# Altium schematic symbol library Wurth_Elektronik_Electromechanic_Wire_to_Board_Connectors_rev16a.SCHLIB: 662 symbols (part 10 of 10)
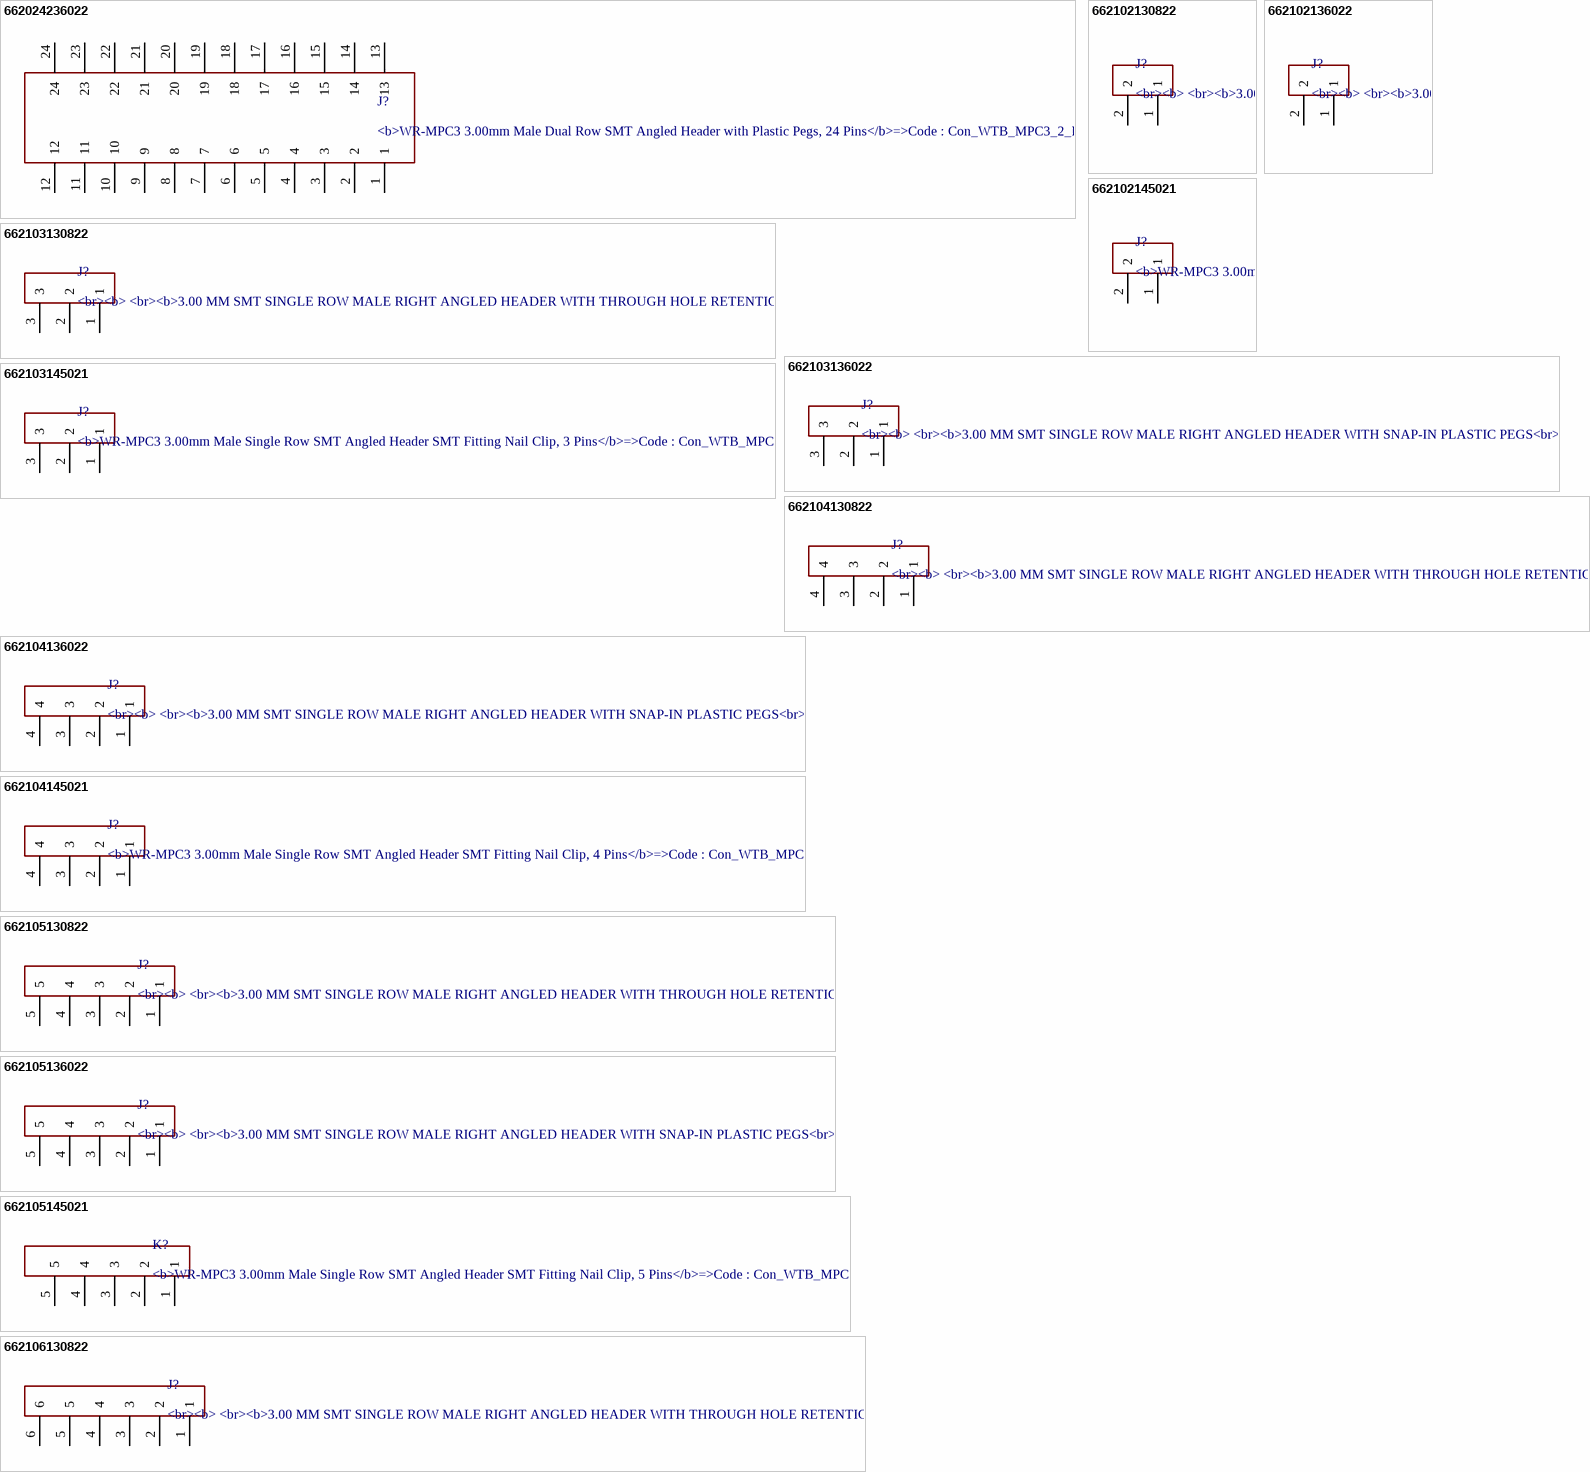
[diagram p71: symbols 662024236022 to 662106130822]

## 662105145021
designator K?, comment <b>WR-MPC3 3.00mm Male Single Row SMT Angled Header SMT Fitting Nail Clip, 5 Pins</b>=>Code : Con_WTB_MPC3_1_PCB_662105145021 / <br><a href="http://katalog.we-online.de/media/thumbs2/eican/thb_Con_WTB_MPC3_1_PCB_6621xx145021_pf2.jpg" title="Enlarge picture"> / <img src="http://katalog.we-online.de/media/thumbs2/eican/thb_Con_WTB_MPC3_1_PCB_6621xx145021_pf2.jpg"  width="320"></a><p> / Details see: <a href="http://katalog.we-online.de/en/em/662_1xx_145_021">http://katalog.we-online.de/en/em/662_1xx_145_021</a><p> / Created 2014-06-06, Karrer Zheng<br> / 2014 (C) Würth Elektronik
footprint 662105145021
pins: 1, 2, 3, 4, 5

## 662106130822
designator J?, comment <br><b> <br><b>3.00 MM SMT SINGLE ROW MALE RIGHT ANGLED HEADER WITH THROUGH HOLE RETENTION CLIPS<br><br></b></b>=>ConMPC3 662106130822 / <br> / <br> / <br><b> Characteristics / <br><br></b></b>INSULATOR: LCP / <br>FLAMABILITY RATING: UL94-V0 / <br>COLOR: BLACK / <br>CONTACT MATERIAL: COPPER ALLOY / <br>CONTACT TYPE: STAMPED / <br>CONTACT PLATING: TIN / <br>QUALITY CLASS: 25 MATING CYCLES / <br>OPERATING TEMPERATURE:-40°C UP TO +105°C / <br>COMPLIANCE: LEAD FREE AND ROHS / <br> / <br> / <br> / <br><b> ELECTRICAL / <br><br></b></b>CURRENT RATING: 5A / <br>WORKING VOLTAGE: 250 VAC / <br>INSULATOR RESISTANCE: >1000 MOHM / <br>DIELECTRIC WITHSTANDING VOLTAGE: 1500 VAC/MN / <br>CONTACT RESISTANCE: 10 mOHM MAX / <br> / <br> / <br><a href="http://katalog.we-online.de/media/images/v2/Family_WRMPC3-6621xx130822_SW.jpg" title="Enlarge picture"> / <img src="http://katalog.we-online.de/media/images/v2/Family_WRMPC3-6621xx130822_SW.jpg"  width="320"></a><p> / Details see: <a href="http://katalog.we-online.de/en/em/MPC3_3_00_SMT_MALE_SINGLE_ROW_ANGLED_HEADER_W_THT_RETENTION_CLIP_6621XX130822/662102130822">http://katalog.we-online.de/en/em/MPC3_3_00_SMT_MALE_SINGLE_ROW_ANGLED_HEADER_W_THT_RETENTION_CLIP_6621XX130822/662102130822?</a><p> / <br></b>2015 (C) Wurth Elektronik
footprint 662106130822
pins: 1, 2, 3, 4, 5, 6

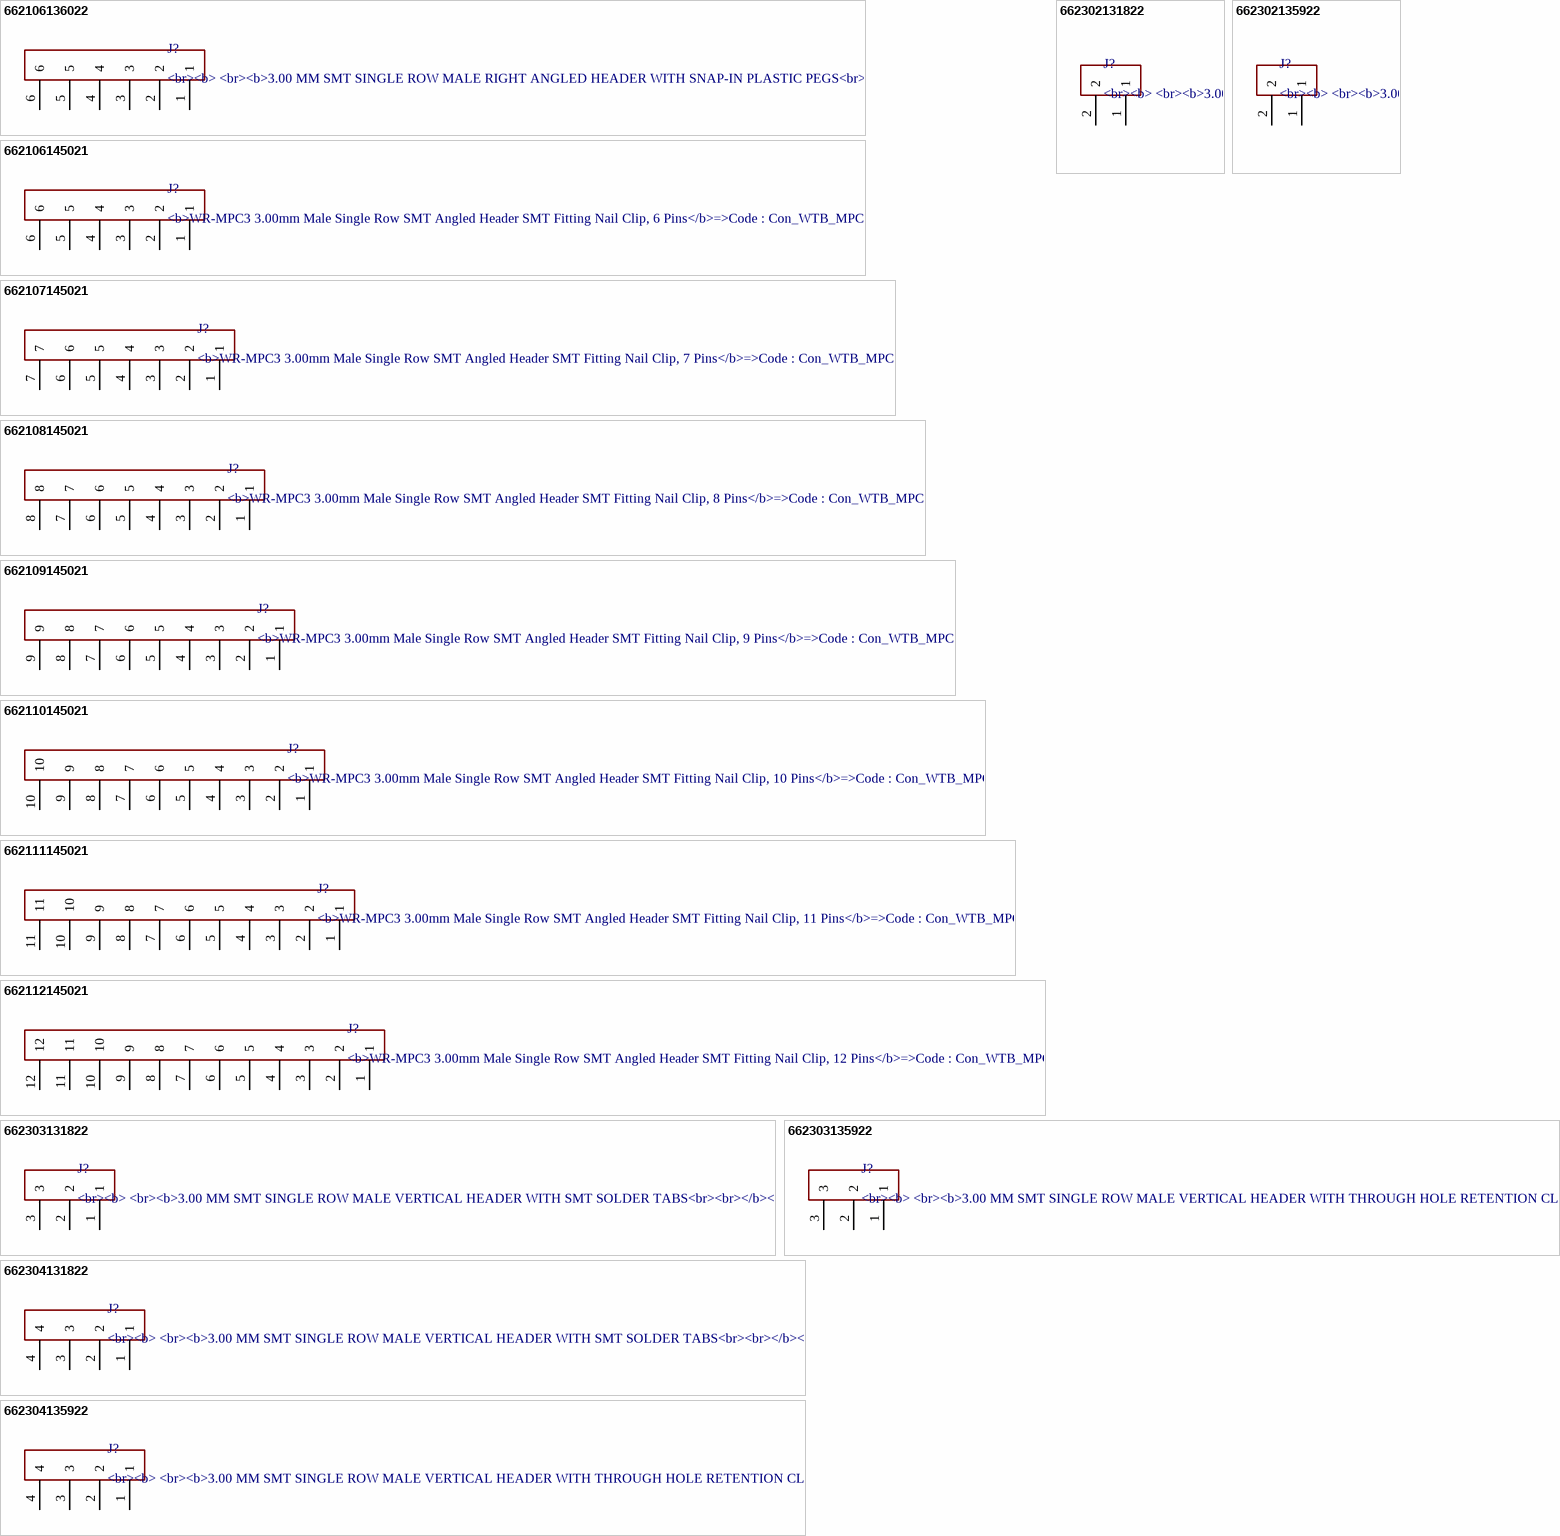
[diagram p59: symbols 662106136022 to 662304135922]

## 662106136022
designator J?, comment <br><b> <br><b>3.00 MM SMT SINGLE ROW MALE RIGHT ANGLED HEADER WITH SNAP-IN PLASTIC PEGS<br><br></b></b>=>ConMPC3 662106136022 / <br> / <br> / <br><b> Characteristics / <br><br></b></b>INSULATOR: LCP / <br>FLAMABILITY RATING: UL94-V0 / <br>COLOR: BLACK / <br>CONTACT MATERIAL: COPPER ALLOY / <br>CONTACT TYPE: STAMPED / <br>CONTACT PLATING: TIN / <br>QUALITY CLASS:25 MATING CYCLES / <br>OPERATING TEMPERATURE:-40°C UP TO +105°C / <br>COMPLIANCE: LEAD FREE AND ROHS / <br> / <br> / <br> / <br><b> ELECTRICAL / <br><br></b></b>CURRENT RATING: 5A / <br>WORKING VOLTAGE: 250 VAC / <br>INSULATOR RESISTANCE: >1000 MOHM / <br>DIELECTRIC WITHSTANDING VOLTAGE: 1500 VAC/MN / <br>CONTACT RESISTANCE: 10 mOHM MAX / <br> / <br> / <br><a href="http://katalog.we-online.de/media/images/v2/Family_WR-MPC3-6621xx136022_SW.jpg" title="Enlarge picture"> / <img src="http://katalog.we-online.de/media/images/v2/Family_WR-MPC3-6621xx136022_SW.jpg"  width="320"></a><p> / Details see: <a href="http://katalog.we-online.de/en/em/MPC3_3_00_SMT_MALE_RIGHT_ANGLED_W_PLASTIC_PEGS_6621XX136022">http://katalog.we-online.de/en/em/MPC3_3_00_SMT_MALE_RIGHT_ANGLED_W_PLASTIC_PEGS_6621XX136022</a><p> / <br></b>2015 (C) Wurth Elektronik
footprint 662106136022
pins: 1, 2, 3, 4, 5, 6

## 662106145021
designator J?, comment <b>WR-MPC3 3.00mm Male Single Row SMT Angled Header SMT Fitting Nail Clip, 6 Pins</b>=>Code : Con_WTB_MPC3_1_PCB_662106145021 / <br><a href="http://katalog.we-online.de/media/thumbs2/eican/thb_Con_WTB_MPC3_1_PCB_6621xx145021_pf2.jpg" title="Enlarge picture"> / <img src="http://katalog.we-online.de/media/thumbs2/eican/thb_Con_WTB_MPC3_1_PCB_6621xx145021_pf2.jpg"  width="320"></a><p> / Details see: <a href="http://katalog.we-online.de/en/em/662_1xx_145_021">http://katalog.we-online.de/en/em/662_1xx_145_021</a><p> / Created 2014-06-06, Karrer Zheng<br> / 2014 (C) Würth Elektronik
footprint 662106145021
pins: 1, 2, 3, 4, 5, 6

## 662107145021
designator J?, comment <b>WR-MPC3 3.00mm Male Single Row SMT Angled Header SMT Fitting Nail Clip, 7 Pins</b>=>Code : Con_WTB_MPC3_1_PCB_662107145021 / <br><a href="http://katalog.we-online.de/media/thumbs2/eican/thb_Con_WTB_MPC3_1_PCB_6621xx145021_pf2.jpg" title="Enlarge picture"> / <img src="http://katalog.we-online.de/media/thumbs2/eican/thb_Con_WTB_MPC3_1_PCB_6621xx145021_pf2.jpg"  width="320"></a><p> / Details see: <a href="http://katalog.we-online.de/en/em/662_1xx_145_021">http://katalog.we-online.de/en/em/662_1xx_145_021</a><p> / Created 2014-06-06, Karrer Zheng<br> / 2014 (C) Würth Elektronik
footprint 662107145021
pins: 1, 2, 3, 4, 5, 6, 7

## 662108145021
designator J?, comment <b>WR-MPC3 3.00mm Male Single Row SMT Angled Header SMT Fitting Nail Clip, 8 Pins</b>=>Code : Con_WTB_MPC3_1_PCB_662108145021 / <br><a href="http://katalog.we-online.de/media/thumbs2/eican/thb_Con_WTB_MPC3_1_PCB_6621xx145021_pf2.jpg" title="Enlarge picture"> / <img src="http://katalog.we-online.de/media/thumbs2/eican/thb_Con_WTB_MPC3_1_PCB_6621xx145021_pf2.jpg"  width="320"></a><p> / Details see: <a href="http://katalog.we-online.de/en/em/662_1xx_145_021">http://katalog.we-online.de/en/em/662_1xx_145_021</a><p> / Created 2014-06-06, Karrer Zheng<br> / 2014 (C) Würth Elektronik
footprint 662108145021
pins: 1, 2, 3, 4, 5, 6, 7, 8

## 662109145021
designator J?, comment <b>WR-MPC3 3.00mm Male Single Row SMT Angled Header SMT Fitting Nail Clip, 9 Pins</b>=>Code : Con_WTB_MPC3_1_PCB_662109145021 / <br><a href="http://katalog.we-online.de/media/thumbs2/eican/thb_Con_WTB_MPC3_1_PCB_6621xx145021_pf2.jpg" title="Enlarge picture"> / <img src="http://katalog.we-online.de/media/thumbs2/eican/thb_Con_WTB_MPC3_1_PCB_6621xx145021_pf2.jpg"  width="320"></a><p> / Details see: <a href="http://katalog.we-online.de/en/em/662_1xx_145_021">http://katalog.we-online.de/en/em/662_1xx_145_021</a><p> / Created 2014-06-06, Karrer Zheng<br> / 2014 (C) Würth Elektronik
footprint 662109145021
pins: 1, 2, 3, 4, 5, 6, 7, 8, 9

## 662110145021
designator J?, comment <b>WR-MPC3 3.00mm Male Single Row SMT Angled Header SMT Fitting Nail Clip, 10 Pins</b>=>Code : Con_WTB_MPC3_1_PCB_662110145021 / <br><a href="http://katalog.we-online.de/media/thumbs2/eican/thb_Con_WTB_MPC3_1_PCB_6621xx145021_pf2.jpg" title="Enlarge picture"> / <img src="http://katalog.we-online.de/media/thumbs2/eican/thb_Con_WTB_MPC3_1_PCB_6621xx145021_pf2.jpg"  width="320"></a><p> / Details see: <a href="http://katalog.we-online.de/en/em/662_1xx_145_021">http://katalog.we-online.de/en/em/662_1xx_145_021</a><p> / Created 2014-06-06, Karrer Zheng<br> / 2014 (C) Würth Elektronik
footprint 662110145021
pins: 1, 2, 3, 4, 5, 6, 7, 8, 9, 10

## 662111145021
designator J?, comment <b>WR-MPC3 3.00mm Male Single Row SMT Angled Header SMT Fitting Nail Clip, 11 Pins</b>=>Code : Con_WTB_MPC3_1_PCB_662112145021 / <br><a href="http://katalog.we-online.de/media/thumbs2/eican/thb_Con_WTB_MPC3_1_PCB_6621xx145021_pf2.jpg" title="Enlarge picture"> / <img src="http://katalog.we-online.de/media/thumbs2/eican/thb_Con_WTB_MPC3_1_PCB_6621xx145021_pf2.jpg"  width="320"></a><p> / Details see: <a href="http://katalog.we-online.de/en/em/662_1xx_145_021">http://katalog.we-online.de/en/em/662_1xx_145_021</a><p> / Created 2014-06-06, Karrer Zheng<br> / 2014 (C) Würth Elektronik
footprint 662111145021
pins: 1, 2, 3, 4, 5, 6, 7, 8, 9, 10, 11

## 662112145021
designator J?, comment <b>WR-MPC3 3.00mm Male Single Row SMT Angled Header SMT Fitting Nail Clip, 12 Pins</b>=>Code : Con_WTB_MPC3_1_PCB_662112145021 / <br><a href="http://katalog.we-online.de/media/thumbs2/eican/thb_Con_WTB_MPC3_1_PCB_6621xx145021_pf2.jpg" title="Enlarge picture"> / <img src="http://katalog.we-online.de/media/thumbs2/eican/thb_Con_WTB_MPC3_1_PCB_6621xx145021_pf2.jpg"  width="320"></a><p> / Details see: <a href="http://katalog.we-online.de/en/em/662_1xx_145_021">http://katalog.we-online.de/en/em/662_1xx_145_021</a><p> / Created 2014-06-06, Karrer Zheng<br> / 2014 (C) Würth Elektronik
footprint 662112145021
pins: 1, 2, 3, 4, 5, 6, 7, 8, 9, 10, 11, 12

## 662302131822
designator J?, comment <br><b> <br><b>3.00 MM SMT SINGLE ROW MALE VERTICAL HEADER WITH SMT SOLDER TABS<br><br></b></b>=>ConMPC3 662302131822 / <br> / <br> / <br><b> Characteristics / <br><br></b></b>INSULATOR: LCP / <br>FLAMABILITY RATING: UL94-V0 / <br>COLOR: BLACK / <br>CONTACT MATERIAL: COPPER ALLOY / <br>CONTACT TYPE: STAMPED / <br>CONTACT PLATING: TIN / <br>QUALITY CLASS:25 MATING CYCLES / <br>OPERATING TEMPERATURE:-40°C UP TO +105°C / <br>COMPLIANCE: LEAD FREE AND ROHS / <br> / <br> / <br> / <br><b> ELECTRICAL / <br><br></b></b>CURRENT RATING: 5A / <br>WORKING VOLTAGE: 250 VAC / <br>INSULATOR RESISTANCE: >1000 MOHM / <br>DIELECTRIC WITHSTANDING VOLTAGE: 1500 VAC/MN / <br>CONTACT RESISTANCE: 10 mOHM MAX / <br> / <br> / <br><a href="http://katalog.we-online.de/media/images/v2/Family_WR-MPC3-6623xx131822_SW.jpg" title="Enlarge picture"> / <img src="http://katalog.we-online.de/media/images/v2/Family_WR-MPC3-6623xx131822_SW.jpg"  width="320"></a><p> / Details see: <a href="http://katalog.we-online.de/en/em/MPC3_3_00_SMT_MALE_SINGLE_ROW_VERTICAL_W_SMT_SOLDER_TAB_6623XX131822/662302131822">http://katalog.we-online.de/en/em/MPC3_3_00_SMT_MALE_SINGLE_ROW_VERTICAL_W_SMT_SOLDER_TAB_6623XX131822/662302131822</a><p> / <br></b>2015 (C) Wurth Elektronik
footprint 662302131822
pins: 1, 2

## 662302135922
designator J?, comment <br><b> <br><b>3.00 MM SMT SINGLE ROW MALE VERTICAL HEADER WITH THROUGH HOLE RETENTION CLIPS<br><br></b></b>=>ConMPC3 662302135922 / <br> / <br> / <br><b> Characteristics / <br><br></b></b>INSULATOR: LCP / <br>FLAMABILITY RATING: UL94-V0 / <br>COLOR: BLACK / <br>CONTACT MATERIAL: COPPER ALLOY / <br>CONTACT TYPE: STAMPED / <br>CONTACT PLATING: TIN / <br>QUALITY CLASS:25 MATING CYCLES / <br>OPERATING TEMPERATURE:-40°C UP TO +105°C / <br>COMPLIANCE: LEAD FREE AND ROHS / <br> / <br> / <br> / <br><b> ELECTRICAL / <br><br></b></b>CURRENT RATING: 5A / <br>WORKING VOLTAGE: 250 VAC / <br>INSULATOR RESISTANCE: >1000 MOHM / <br>DIELECTRIC WITHSTANDING VOLTAGE: 1500 VAC/MN / <br>CONTACT RESISTANCE: 10 mOHM MAX / <br> / <br> / <br><a href="http://katalog.we-online.de/media/images/v2/Family_WR-MPC3-6623xx135922_SW.jpg" title="Enlarge picture"> / <img src="http://katalog.we-online.de/media/images/v2/Family_WR-MPC3-6623xx135922_SW.jpg"  width="320"></a><p> / Details see: <a href="http://katalog.we-online.de/en/em/MPC3_3_00_SMT_MALE_SINGLE_ROW_VERTICAL_W_THT_RETENTION_CLIP_6623XX135922">http://katalog.we-online.de/en/em/MPC3_3_00_SMT_MALE_SINGLE_ROW_VERTICAL_W_THT_RETENTION_CLIP_6623XX135922</a><p> / <br></b>2015 (C) Wurth Elektronik
footprint 662302135922
pins: 1, 2

## 662303131822
designator J?, comment <br><b> <br><b>3.00 MM SMT SINGLE ROW MALE VERTICAL HEADER WITH SMT SOLDER TABS<br><br></b></b>=>ConMPC3 662303131822 / <br> / <br> / <br><b> Characteristics / <br><br></b></b>INSULATOR: LCP / <br>FLAMABILITY RATING: UL94-V0 / <br>COLOR: BLACK / <br>CONTACT MATERIAL: COPPER ALLOY / <br>CONTACT TYPE: STAMPED / <br>CONTACT PLATING: TIN / <br>QUALITY CLASS:25 MATING CYCLES / <br>OPERATING TEMPERATURE:-40°C UP TO +105°C / <br>COMPLIANCE: LEAD FREE AND ROHS / <br> / <br> / <br> / <br><b> ELECTRICAL / <br><br></b></b>CURRENT RATING: 5A / <br>WORKING VOLTAGE: 250 VAC / <br>INSULATOR RESISTANCE: >1000 MOHM / <br>DIELECTRIC WITHSTANDING VOLTAGE: 1500 VAC/MN / <br>CONTACT RESISTANCE: 10 mOHM MAX / <br> / <br> / <br><a href="http://katalog.we-online.de/media/images/v2/Family_WR-MPC3-6623xx131822_SW.jpg" title="Enlarge picture"> / <img src="http://katalog.we-online.de/media/images/v2/Family_WR-MPC3-6623xx131822_SW.jpg"  width="320"></a><p> / Details see: <a href="http://katalog.we-online.de/en/em/MPC3_3_00_SMT_MALE_SINGLE_ROW_VERTICAL_W_SMT_SOLDER_TAB_6623XX131822">http://katalog.we-online.de/en/em/MPC3_3_00_SMT_MALE_SINGLE_ROW_VERTICAL_W_SMT_SOLDER_TAB_6623XX131822</a><p> / <br></b>2015 (C) Wurth Elektronik
footprint 662303131822
pins: 1, 2, 3

## 662303135922
designator J?, comment <br><b> <br><b>3.00 MM SMT SINGLE ROW MALE VERTICAL HEADER WITH THROUGH HOLE RETENTION CLIPS<br><br></b></b>=>ConMPC3 662303135922 / <br> / <br> / <br><b> Characteristics / <br><br></b></b>INSULATOR: LCP / <br>FLAMABILITY RATING: UL94-V0 / <br>COLOR: BLACK / <br>CONTACT MATERIAL: COPPER ALLOY / <br>CONTACT TYPE: STAMPED / <br>CONTACT PLATING: TIN / <br>QUALITY CLASS:25 MATING CYCLES / <br>OPERATING TEMPERATURE:-40°C UP TO +105°C / <br>COMPLIANCE: LEAD FREE AND ROHS / <br> / <br> / <br> / <br><b> ELECTRICAL / <br><br></b></b>CURRENT RATING: 5A / <br>WORKING VOLTAGE: 250 VAC / <br>INSULATOR RESISTANCE: >1000 MOHM / <br>DIELECTRIC WITHSTANDING VOLTAGE: 1500 VAC/MN / <br>CONTACT RESISTANCE: 10 mOHM MAX / <br> / <br> / <br><a href="http://katalog.we-online.de/media/images/v2/Family_WR-MPC3-6623xx135922_SW.jpg" title="Enlarge picture"> / <img src="http://katalog.we-online.de/media/images/v2/Family_WR-MPC3-6623xx135922_SW.jpg"  width="320"></a><p> / Details see: <a href="http://katalog.we-online.de/en/em/MPC3_3_00_SMT_MALE_SINGLE_ROW_VERTICAL_W_THT_RETENTION_CLIP_6623XX135922">http://katalog.we-online.de/en/em/MPC3_3_00_SMT_MALE_SINGLE_ROW_VERTICAL_W_THT_RETENTION_CLIP_6623XX135922</a><p> / <br></b>2015 (C) Wurth Elektronik
footprint 662303135922
pins: 1, 2, 3

## 662304131822
designator J?, comment <br><b> <br><b>3.00 MM SMT SINGLE ROW MALE VERTICAL HEADER WITH SMT SOLDER TABS<br><br></b></b>=>ConMPC3 662304131822 / <br> / <br> / <br><b> Characteristics / <br><br></b></b>INSULATOR: LCP / <br>FLAMABILITY RATING: UL94-V0 / <br>COLOR: BLACK / <br>CONTACT MATERIAL: COPPER ALLOY / <br>CONTACT TYPE: STAMPED / <br>CONTACT PLATING: TIN / <br>QUALITY CLASS:25 MATING CYCLES / <br>OPERATING TEMPERATURE:-40°C UP TO +105°C / <br>COMPLIANCE: LEAD FREE AND ROHS / <br> / <br> / <br> / <br><b> ELECTRICAL / <br><br></b></b>CURRENT RATING: 5A / <br>WORKING VOLTAGE: 250 VAC / <br>INSULATOR RESISTANCE: >1000 MOHM / <br>DIELECTRIC WITHSTANDING VOLTAGE: 1500 VAC/MN / <br>CONTACT RESISTANCE: 10 mOHM MAX / <br> / <br> / <br><a href="http://katalog.we-online.de/media/images/v2/Family_WR-MPC3-6623xx131822_SW.jpg" title="Enlarge picture"> / <img src="http://katalog.we-online.de/media/images/v2/Family_WR-MPC3-6623xx131822_SW.jpg"  width="320"></a><p> / Details see: <a href="http://katalog.we-online.de/en/em/MPC3_3_00_SMT_MALE_SINGLE_ROW_VERTICAL_W_SMT_SOLDER_TAB_6623XX131822">http://katalog.we-online.de/en/em/MPC3_3_00_SMT_MALE_SINGLE_ROW_VERTICAL_W_SMT_SOLDER_TAB_6623XX131822</a><p> / <br></b>2015 (C) Wurth Elektronik
footprint 662304131822
pins: 1, 2, 3, 4

## 662304135922
designator J?, comment <br><b> <br><b>3.00 MM SMT SINGLE ROW MALE VERTICAL HEADER WITH THROUGH HOLE RETENTION CLIPS<br><br></b></b>=>ConMPC3 662304135922 / <br> / <br> / <br><b> Characteristics / <br><br></b></b>INSULATOR: LCP / <br>FLAMABILITY RATING: UL94-V0 / <br>COLOR: BLACK / <br>CONTACT MATERIAL: COPPER ALLOY / <br>CONTACT TYPE: STAMPED / <br>CONTACT PLATING: TIN / <br>QUALITY CLASS:25 MATING CYCLES / <br>OPERATING TEMPERATURE:-40°C UP TO +105°C / <br>COMPLIANCE: LEAD FREE AND ROHS / <br> / <br> / <br> / <br><b> ELECTRICAL / <br><br></b></b>CURRENT RATING: 5A / <br>WORKING VOLTAGE: 250 VAC / <br>INSULATOR RESISTANCE: >1000 MOHM / <br>DIELECTRIC WITHSTANDING VOLTAGE: 1500 VAC/MN / <br>CONTACT RESISTANCE: 10 mOHM MAX / <br> / <br> / <br><a href="http://katalog.we-online.de/media/images/v2/Family_WR-MPC3-6623xx135922_SW.jpg" title="Enlarge picture"> / <img src="http://katalog.we-online.de/media/images/v2/Family_WR-MPC3-6623xx135922_SW.jpg"  width="320"></a><p> / Details see: <a href="http://katalog.we-online.de/en/em/MPC3_3_00_SMT_MALE_SINGLE_ROW_VERTICAL_W_THT_RETENTION_CLIP_6623XX135922">http://katalog.we-online.de/en/em/MPC3_3_00_SMT_MALE_SINGLE_ROW_VERTICAL_W_THT_RETENTION_CLIP_6623XX135922</a><p> / <br></b>2015 (C) Wurth Elektronik
footprint 662304135922
pins: 1, 2, 3, 4

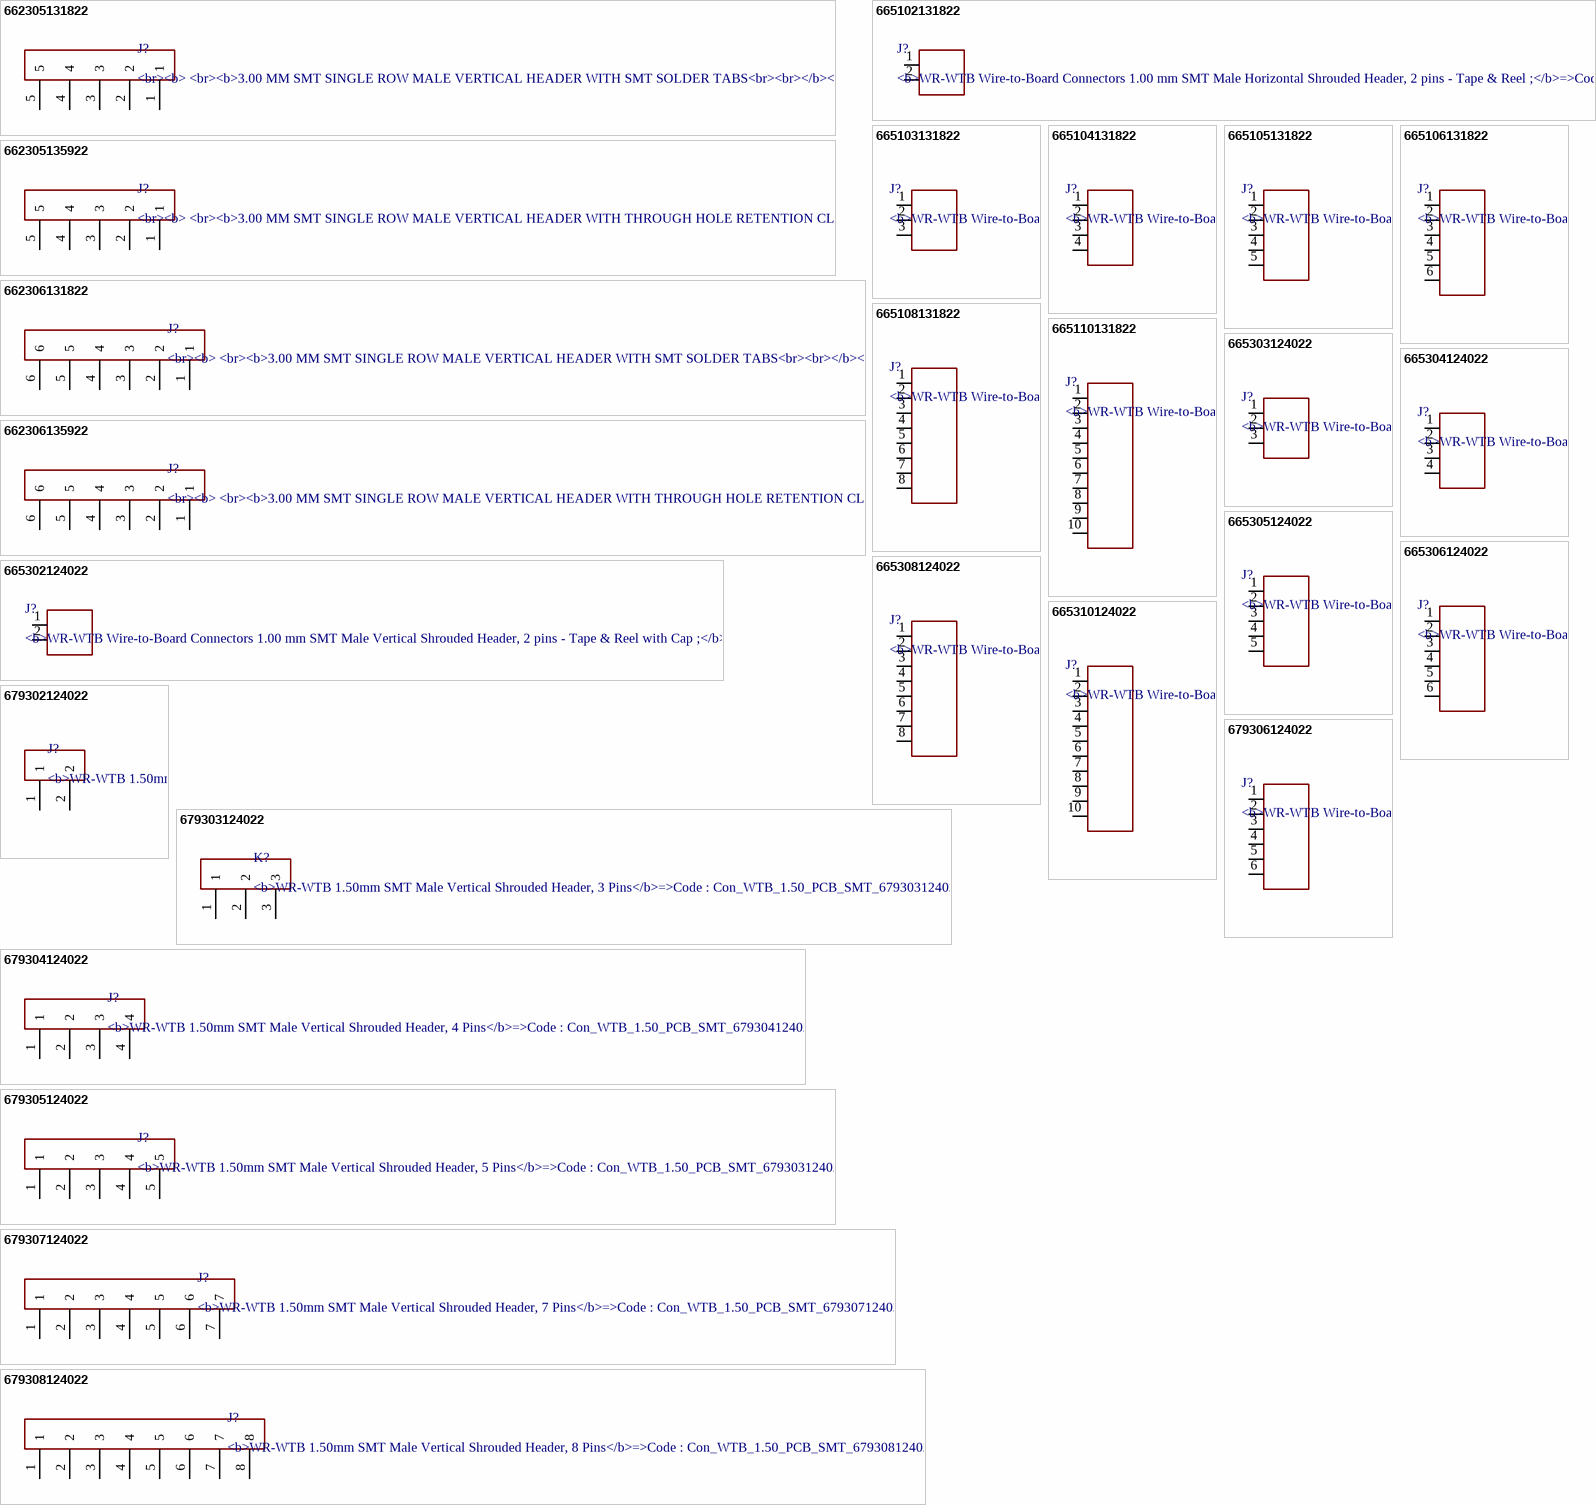
[diagram p60: symbols 662305131822 to 679308124022]

## 662305131822
designator J?, comment <br><b> <br><b>3.00 MM SMT SINGLE ROW MALE VERTICAL HEADER WITH SMT SOLDER TABS<br><br></b></b>=>ConMPC3 662305131822 / <br> / <br> / <br><b> Characteristics / <br><br></b></b>INSULATOR: LCP / <br>FLAMABILITY RATING: UL94-V0 / <br>COLOR: BLACK / <br>CONTACT MATERIAL: COPPER ALLOY / <br>CONTACT TYPE: STAMPED / <br>CONTACT PLATING: TIN / <br>QUALITY CLASS:25 MATING CYCLES / <br>OPERATING TEMPERATURE:-40°C UP TO +105°C / <br>COMPLIANCE: LEAD FREE AND ROHS / <br> / <br> / <br> / <br><b> ELECTRICAL / <br><br></b></b>CURRENT RATING: 5A / <br>WORKING VOLTAGE: 250 VAC / <br>INSULATOR RESISTANCE: >1000 MOHM / <br>DIELECTRIC WITHSTANDING VOLTAGE: 1500 VAC/MN / <br>CONTACT RESISTANCE: 10 mOHM MAX / <br> / <br> / <br><a href="http://katalog.we-online.de/media/images/v2/Family_WR-MPC3-6623xx131822_SW.jpg" title="Enlarge picture"> / <img src="http://katalog.we-online.de/media/images/v2/Family_WR-MPC3-6623xx131822_SW.jpg"  width="320"></a><p> / Details see: <a href="http://katalog.we-online.de/en/em/MPC3_3_00_SMT_MALE_SINGLE_ROW_VERTICAL_W_SMT_SOLDER_TAB_6623XX131822">http://katalog.we-online.de/en/em/MPC3_3_00_SMT_MALE_SINGLE_ROW_VERTICAL_W_SMT_SOLDER_TAB_6623XX131822</a><p> / <br></b>2015 (C) Wurth Elektronik
footprint 662305131822
pins: 1, 2, 3, 4, 5

## 662305135922
designator J?, comment <br><b> <br><b>3.00 MM SMT SINGLE ROW MALE VERTICAL HEADER WITH THROUGH HOLE RETENTION CLIPS<br><br></b></b>=>ConMPC3 662305135922 / <br> / <br> / <br><b> Characteristics / <br><br></b></b>INSULATOR: LCP / <br>FLAMABILITY RATING: UL94-V0 / <br>COLOR: BLACK / <br>CONTACT MATERIAL: COPPER ALLOY / <br>CONTACT TYPE: STAMPED / <br>CONTACT PLATING: TIN / <br>QUALITY CLASS:25 MATING CYCLES / <br>OPERATING TEMPERATURE:-40°C UP TO +105°C / <br>COMPLIANCE: LEAD FREE AND ROHS / <br> / <br> / <br> / <br><b> ELECTRICAL / <br><br></b></b>CURRENT RATING: 5A / <br>WORKING VOLTAGE: 250 VAC / <br>INSULATOR RESISTANCE: >1000 MOHM / <br>DIELECTRIC WITHSTANDING VOLTAGE: 1500 VAC/MN / <br>CONTACT RESISTANCE: 10 mOHM MAX / <br> / <br> / <br><a href="http://katalog.we-online.de/media/images/v2/Family_WR-MPC3-6623xx135922_SW.jpg" title="Enlarge picture"> / <img src="http://katalog.we-online.de/media/images/v2/Family_WR-MPC3-6623xx135922_SW.jpg"  width="320"></a><p> / Details see: <a href="http://katalog.we-online.de/en/em/MPC3_3_00_SMT_MALE_SINGLE_ROW_VERTICAL_W_THT_RETENTION_CLIP_6623XX135922">http://katalog.we-online.de/en/em/MPC3_3_00_SMT_MALE_SINGLE_ROW_VERTICAL_W_THT_RETENTION_CLIP_6623XX135922</a><p> / <br></b>2015 (C) Wurth Elektronik
footprint 662305135922
pins: 1, 2, 3, 4, 5

## 662306131822
designator J?, comment <br><b> <br><b>3.00 MM SMT SINGLE ROW MALE VERTICAL HEADER WITH SMT SOLDER TABS<br><br></b></b>=>ConMPC3 662306131822 / <br> / <br> / <br><b> Characteristics / <br><br></b></b>INSULATOR: LCP / <br>FLAMABILITY RATING: UL94-V0 / <br>COLOR: BLACK / <br>CONTACT MATERIAL: COPPER ALLOY / <br>CONTACT TYPE: STAMPED / <br>CONTACT PLATING: TIN / <br>QUALITY CLASS:25 MATING CYCLES / <br>OPERATING TEMPERATURE:-40°C UP TO +105°C / <br>COMPLIANCE: LEAD FREE AND ROHS / <br> / <br> / <br> / <br><b> ELECTRICAL / <br><br></b></b>CURRENT RATING: 5A / <br>WORKING VOLTAGE: 250 VAC / <br>INSULATOR RESISTANCE: >1000 MOHM / <br>DIELECTRIC WITHSTANDING VOLTAGE: 1500 VAC/MN / <br>CONTACT RESISTANCE: 10 mOHM MAX / <br> / <br> / <br> / <br> / <br><a href="http://katalog.we-online.de/media/images/v2/Family_WR-MPC3-6623xx131822_SW.jpg" title="Enlarge picture"> / <img src="http://katalog.we-online.de/media/images/v2/Family_WR-MPC3-6623xx131822_SW.jpg"  width="320"></a><p> / Details see: <a href="http://katalog.we-online.de/en/em/MPC3_3_00_SMT_MALE_SINGLE_ROW_VERTICAL_W_SMT_SOLDER_TAB_6623XX131822">http://katalog.we-online.de/en/em/MPC3_3_00_SMT_MALE_SINGLE_ROW_VERTICAL_W_SMT_SOLDER_TAB_6623XX131822</a><p> / <br></b>2015 (C) Wurth Elektronik
footprint 662306131822
pins: 1, 2, 3, 4, 5, 6

## 662306135922
designator J?, comment <br><b> <br><b>3.00 MM SMT SINGLE ROW MALE VERTICAL HEADER WITH THROUGH HOLE RETENTION CLIPS<br><br></b></b>=>ConMPC3 662306135922 / <br> / <br> / <br><b> Characteristics / <br><br></b></b>INSULATOR: LCP / <br>FLAMABILITY RATING: UL94-V0 / <br>COLOR: BLACK / <br>CONTACT MATERIAL: COPPER ALLOY / <br>CONTACT TYPE: STAMPED / <br>CONTACT PLATING: TIN / <br>QUALITY CLASS:25 MATING CYCLES / <br>OPERATING TEMPERATURE:-40°C UP TO +105°C / <br>COMPLIANCE: LEAD FREE AND ROHS / <br> / <br> / <br> / <br><b> ELECTRICAL / <br><br></b></b>CURRENT RATING: 5A / <br>WORKING VOLTAGE: 250 VAC / <br>INSULATOR RESISTANCE: >1000 MOHM / <br>DIELECTRIC WITHSTANDING VOLTAGE: 1500 VAC/MN / <br>CONTACT RESISTANCE: 10 mOHM MAX / <br> / <br> / <br><a href="http://katalog.we-online.de/media/images/v2/Family_WR-MPC3-6623xx135922_SW.jpg" title="Enlarge picture"> / <img src="http://katalog.we-online.de/media/images/v2/Family_WR-MPC3-6623xx135922_SW.jpg"  width="320"></a><p> / Details see: <a href="http://katalog.we-online.de/en/em/MPC3_3_00_SMT_MALE_SINGLE_ROW_VERTICAL_W_THT_RETENTION_CLIP_6623XX135922">http://katalog.we-online.de/en/em/MPC3_3_00_SMT_MALE_SINGLE_ROW_VERTICAL_W_THT_RETENTION_CLIP_6623XX135922</a><p> / <br></b>2015 (C) Wurth Elektronik
footprint 662306135922
pins: 1, 2, 3, 4, 5, 6

## 665102131822
designator J?, comment <b>WR-WTB Wire-to-Board Connectors 1.00 mm SMT Male Horizontal Shrouded Header, 2 pins - Tape & Reel / ;</b>=>Code : Con_WTB_1_TermH_6651xx131822-665102131822 / <p><a href="http://katalog.we-online.de/media/images/eican/Con_WTB_1_TermH_6651xx131822_pf2.jpg"> / <img src="http://katalog.we-online.de/media/thumbs2/eican/thb_Con_WTB_1_TermH_6651xx131822_pf2.jpg" width="320"></a><p> / Details see: <a href="http://katalog.we-online.de/em/datasheet/6651xx131822.pdf">http://katalog.we-online.de/em/datasheet/6651xx131822.pdf</a><p> / Created 2014-10-08, Karrer Zheng<br> / 2014 (C) Wurth Elektronik
footprint 665102131822
pins: 1, 2

## 665103131822
designator J?, comment <b>WR-WTB Wire-to-Board Connectors 1.00 mm SMT Male Horizontal Shrouded Header, 3 pins - Tape & Reel / ;</b>=>Code : Con_WTB_1_TermH_6651xx131822_665103131822 / <p><a href="http://katalog.we-online.de/media/images/eican/Con_WTB_1_TermH_6651xx131822_pf2.jpg"> / <img src="http://katalog.we-online.de/media/thumbs2/eican/thb_Con_WTB_1_TermH_6651xx131822_pf2.jpg" width="320"></a><p> / Details see: <a href="http://katalog.we-online.de/em/datasheet/6651xx131822.pdf">http://katalog.we-online.de/em/datasheet/6651xx131822.pdf</a><p> / Created 2014-10-08, Karrer Zheng<br> / 2014 (C) Wurth Elektronik
footprint 665103131822
pins: 1, 2, 3

## 665104131822
designator J?, comment <b>WR-WTB Wire-to-Board Connectors 1.00 mm SMT Male Horizontal Shrouded Header, 4 pins - Tape & Reel / ;</b>=>Code : Con_WTB_1_TermH_6651xx131822_665104131822 / <p><a href="http://katalog.we-online.de/media/images/eican/Con_WTB_1_TermH_6651xx131822_pf2.jpg"> / <img src="http://katalog.we-online.de/media/thumbs2/eican/thb_Con_WTB_1_TermH_6651xx131822_pf2.jpg" width="320"></a><p> / Details see: <a href="http://katalog.we-online.de/em/datasheet/6651xx131822.pdf">http://katalog.we-online.de/em/datasheet/6651xx131822.pdf</a><p> / Created 2014-10-08, Karrer Zheng<br> / 2014 (C) Wurth Elektronik
footprint 665104131822
pins: 1, 2, 3, 4

## 665105131822
designator J?, comment <b>WR-WTB Wire-to-Board Connectors 1.00 mm SMT Male Horizontal Shrouded Header, 5 pins - Tape & Reel / ;</b>=>Code : Con_WTB_1_TermH_6651xx131822_665105131822 / <p><a href="http://katalog.we-online.de/media/images/eican/Con_WTB_1_TermH_6651xx131822_pf2.jpg"> / <img src="http://katalog.we-online.de/media/thumbs2/eican/thb_Con_WTB_1_TermH_6651xx131822_pf2.jpg" width="320"></a><p> / Details see: <a href="http://katalog.we-online.de/em/datasheet/6651xx131822.pdf">http://katalog.we-online.de/em/datasheet/6651xx131822.pdf</a><p> / Created 2014-10-08, Karrer Zheng<br> / 2014 (C) Wurth Elektronik
footprint 665105131822
pins: 1, 2, 3, 4, 5

## 665106131822
designator J?, comment <b>WR-WTB Wire-to-Board Connectors 1.00 mm SMT Male Horizontal Shrouded Header, 6 pins - Tape & Reel / ;</b>=>Code : Con_WTB_1_TermH_6651xx131822_665106131822 / <p><a href="http://katalog.we-online.de/media/images/eican/Con_WTB_1_TermH_6651xx131822_pf2.jpg"> / <img src="http://katalog.we-online.de/media/thumbs2/eican/thb_Con_WTB_1_TermH_6651xx131822_pf2.jpg" width="320"></a><p> / Details see: <a href="http://katalog.we-online.de/em/datasheet/6651xx131822.pdf">http://katalog.we-online.de/em/datasheet/6651xx131822.pdf</a><p> / Created 2014-10-08, Karrer Zheng<br> / 2014 (C) Wurth Elektronik
footprint 665106131822
pins: 1, 2, 3, 4, 5, 6

## 665108131822
designator J?, comment <b>WR-WTB Wire-to-Board Connectors 1.00 mm SMT Male Horizontal Shrouded Header, 8 pins - Tape & Reel / ;</b>=>Code : Con_WTB_1_TermH_6651xx131822_665108131822 / <p><a href="http://katalog.we-online.de/media/images/eican/Con_WTB_1_TermH_6651xx131822_pf2.jpg"> / <img src="http://katalog.we-online.de/media/thumbs2/eican/thb_Con_WTB_1_TermH_6651xx131822_pf2.jpg" width="320"></a><p> / Details see: <a href="http://katalog.we-online.de/em/datasheet/6651xx131822.pdf">http://katalog.we-online.de/em/datasheet/6651xx131822.pdf</a><p> / Created 2014-10-08, Karrer Zheng<br> / 2014 (C) Wurth Elektronik
footprint 665108131822
pins: 1, 2, 3, 4, 5, 6, 7, 8

## 665110131822
designator J?, comment <b>WR-WTB Wire-to-Board Connectors 1.00 mm SMT Male Horizontal Shrouded Header, 10 pins - Tape & Reel / ;</b>=>Code : Con_WTB_1_TermH_6651xx131822_665110131822 / <p><a href="http://katalog.we-online.de/media/images/eican/Con_WTB_1_TermH_6651xx131822_pf2.jpg"> / <img src="http://katalog.we-online.de/media/thumbs2/eican/thb_Con_WTB_1_TermH_6651xx131822_pf2.jpg" width="320"></a><p> / Details see: <a href="http://katalog.we-online.de/em/datasheet/6651xx131822.pdf">http://katalog.we-online.de/em/datasheet/6651xx131822.pdf</a><p> / Created 2014-10-08, Karrer Zheng<br> / 2014 (C) Wurth Elektronik
footprint 665110131822
pins: 1, 2, 3, 4, 5, 6, 7, 8, 9, 10

## 665302124022
designator J?, comment <b>WR-WTB Wire-to-Board Connectors 1.00 mm SMT Male Vertical Shrouded Header, 2 pins - Tape & Reel with Cap / ;</b>=>Code : Con_WTB_MPC3_1_TermH_6653xx124022_665302124022 / <p><a href="http://katalog.we-online.de/media/images/eican/Con_WTB_MPC3_1_TermH_6653xx124022_pf2.jpg"> / <img src="http://katalog.we-online.de/media/thumbs2/eican/thb_Con_WTB_MPC3_1_TermH_6653xx124022_pf2.jpg" width="320"></a><p> / Details see: <a href="http://katalog.we-online.de/em/datasheet/6653xx124022.pdf">http://katalog.we-online.de/em/datasheet/6653xx124022.pdf</a><p> / Created 2014-10-08, Karrer Zheng<br> / 2014 (C) Wurth Elektronik
footprint 665302124022
pins: 1, 2

## 665303124022
designator J?, comment <b>WR-WTB Wire-to-Board Connectors 1.00 mm SMT Male Vertical Shrouded Header, 3 pins - Tape & Reel with Cap / ;</b>=>Code : Con_WTB_MPC3_1_TermH_6653xx124022_665303124022 / <p><a href="http://katalog.we-online.de/media/images/eican/Con_WTB_MPC3_1_TermH_6653xx124022_pf2.jpg"> / <img src="http://katalog.we-online.de/media/thumbs2/eican/thb_Con_WTB_MPC3_1_TermH_6653xx124022_pf2.jpg" width="320"></a><p> / Details see: <a href="http://katalog.we-online.de/em/datasheet/6653xx124022.pdf">http://katalog.we-online.de/em/datasheet/6653xx124022.pdf</a><p> / Created 2014-10-08, Karrer Zheng<br> / 2014 (C) Wurth Elektronik
footprint 665303124022
pins: 1, 2, 3

## 665304124022
designator J?, comment <b>WR-WTB Wire-to-Board Connectors 1.00 mm SMT Male Vertical Shrouded Header, 4 pins - Tape & Reel with Cap / ;</b>=>Code : Con_WTB_MPC3_1_TermH_6653xx124022_665304124022 / <p><a href="http://katalog.we-online.de/media/images/eican/Con_WTB_MPC3_1_TermH_6653xx124022_pf2.jpg"> / <img src="http://katalog.we-online.de/media/thumbs2/eican/thb_Con_WTB_MPC3_1_TermH_6653xx124022_pf2.jpg" width="320"></a><p> / Details see: <a href="http://katalog.we-online.de/em/datasheet/6653xx124022.pdf">http://katalog.we-online.de/em/datasheet/6653xx124022.pdf</a><p> / Created 2014-10-08, Karrer Zheng<br> / 2014 (C) Wurth Elektronik
footprint 665304124022
pins: 1, 2, 3, 4

## 665305124022
designator J?, comment <b>WR-WTB Wire-to-Board Connectors 1.00 mm SMT Male Vertical Shrouded Header, 5 pins - Tape & Reel with Cap / ;</b>=>Code : Con_WTB_MPC3_1_TermH_6653xx124022_665305124022 / <p><a href="http://katalog.we-online.de/media/images/eican/Con_WTB_MPC3_1_TermH_6653xx124022_pf2.jpg"> / <img src="http://katalog.we-online.de/media/thumbs2/eican/thb_Con_WTB_MPC3_1_TermH_6653xx124022_pf2.jpg" width="320"></a><p> / Details see: <a href="http://katalog.we-online.de/em/datasheet/6653xx124022.pdf">http://katalog.we-online.de/em/datasheet/6653xx124022.pdf</a><p> / Created 2014-10-08, Karrer Zheng<br> / 2014 (C) Wurth Elektronik
footprint 665305124022
pins: 1, 2, 3, 4, 5

## 665306124022
designator J?, comment <b>WR-WTB Wire-to-Board Connectors 1.00 mm SMT Male Vertical Shrouded Header, 6 pins - Tape & Reel with Cap / ;</b>=>Code : Con_WTB_MPC3_1_TermH_6653xx124022_665306124022 / <p><a href="http://katalog.we-online.de/media/images/eican/Con_WTB_MPC3_1_TermH_6653xx124022_pf2.jpg"> / <img src="http://katalog.we-online.de/media/thumbs2/eican/thb_Con_WTB_MPC3_1_TermH_6653xx124022_pf2.jpg" width="320"></a><p> / Details see: <a href="http://katalog.we-online.de/em/datasheet/6653xx124022.pdf">http://katalog.we-online.de/em/datasheet/6653xx124022.pdf</a><p> / Created 2014-10-08, Karrer Zheng<br> / 2014 (C) Wurth Elektronik
footprint 665306124022
pins: 1, 2, 3, 4, 5, 6

## 665308124022
designator J?, comment <b>WR-WTB Wire-to-Board Connectors 1.00 mm SMT Male Vertical Shrouded Header, 8 pins - Tape & Reel with Cap / ;</b>=>Code : Con_WTB_MPC3_1_TermH_6653xx124022_665308124022 / <p><a href="http://katalog.we-online.de/media/images/eican/Con_WTB_MPC3_1_TermH_6653xx124022_pf2.jpg"> / <img src="http://katalog.we-online.de/media/thumbs2/eican/thb_Con_WTB_MPC3_1_TermH_6653xx124022_pf2.jpg" width="320"></a><p> / Details see: <a href="http://katalog.we-online.de/em/datasheet/6653xx124022.pdf">http://katalog.we-online.de/em/datasheet/6653xx124022.pdf</a><p> / Created 2014-10-08, Karrer Zheng<br> / 2014 (C) Wurth Elektronik
footprint 665308124022
pins: 1, 2, 3, 4, 5, 6, 7, 8

## 665310124022
designator J?, comment <b>WR-WTB Wire-to-Board Connectors 1.00 mm SMT Male Vertical Shrouded Header, 10 pins - Tape & Reel with Cap / ;</b>=>Code : Con_WTB_MPC3_1_TermH_6653xx124022_665310124022 / <p><a href="http://katalog.we-online.de/media/images/eican/Con_WTB_MPC3_1_TermH_6653xx124022_pf2.jpg"> / <img src="http://katalog.we-online.de/media/thumbs2/eican/thb_Con_WTB_MPC3_1_TermH_6653xx124022_pf2.jpg" width="320"></a><p> / Details see: <a href="http://katalog.we-online.de/em/datasheet/6653xx124022.pdf">http://katalog.we-online.de/em/datasheet/6653xx124022.pdf</a><p> / Created 2014-10-08, Karrer Zheng<br> / 2014 (C) Wurth Elektronik
footprint 665310124022
pins: 1, 2, 3, 4, 5, 6, 7, 8, 9, 10

## 679302124022
designator J?, comment <b>WR-WTB 1.50mm SMT Male Vertical Shrouded Header, 2 Pins</b>=>Code : Con_WTB_1.50_PCB_SMT_679302124022 / <br><a href="http://katalog.we-online.de/media/thumbs2/eican/thb_Con_WTB_1.50_PCB_SMT_6793xx124022_pf2.jpg" title="Enlarge picture"> / <img src="http://katalog.we-online.de/media/thumbs2/eican/thb_Con_WTB_1.50_PCB_SMT_6793xx124022_pf2.jpg"  width="320"></a><p> / Details see: <a href="http://katalog.we-online.de/en/em/679_3xx_124_022">http://katalog.we-online.de/en/em/679_3xx_124_022</a><p> / Created 2014-06-06, Karrer Zheng<br> / 2014 (C) Würth Elektronik
footprint 679302124022
pins: 1, 2

## 679303124022
designator K?, comment <b>WR-WTB 1.50mm SMT Male Vertical Shrouded Header, 3 Pins</b>=>Code : Con_WTB_1.50_PCB_SMT_679303124022 / <br><a href="http://katalog.we-online.de/media/thumbs2/eican/thb_Con_WTB_1.50_PCB_SMT_6793xx124022_pf2.jpg" title="Enlarge picture"> / <img src="http://katalog.we-online.de/media/thumbs2/eican/thb_Con_WTB_1.50_PCB_SMT_6793xx124022_pf2.jpg"  width="320"></a><p> / Details see: <a href="http://katalog.we-online.de/en/em/679_3xx_124_022">http://katalog.we-online.de/en/em/679_3xx_124_022</a><p> / Created 2014-06-06, Karrer Zheng<br> / 2014 (C) Würth Elektronik
footprint 679303124022
pins: 1, 2, 3

## 679304124022
designator J?, comment <b>WR-WTB 1.50mm SMT Male Vertical Shrouded Header, 4 Pins</b>=>Code : Con_WTB_1.50_PCB_SMT_679304124022 / <br><a href="http://katalog.we-online.de/media/thumbs2/eican/thb_Con_WTB_1.50_PCB_SMT_6793xx124022_pf2.jpg" title="Enlarge picture"> / <img src="http://katalog.we-online.de/media/thumbs2/eican/thb_Con_WTB_1.50_PCB_SMT_6793xx124022_pf2.jpg"  width="320"></a><p> / Details see: <a href="http://katalog.we-online.de/en/em/679_3xx_124_022">http://katalog.we-online.de/en/em/679_3xx_124_022</a><p> / Created 2014-06-06, Karrer Zheng<br> / 2014 (C) Würth Elektronik
footprint 679304124022
pins: 1, 2, 3, 4

## 679305124022
designator J?, comment <b>WR-WTB 1.50mm SMT Male Vertical Shrouded Header, 5 Pins</b>=>Code : Con_WTB_1.50_PCB_SMT_679303124022 / <br><a href="http://katalog.we-online.de/media/thumbs2/eican/thb_Con_WTB_1.50_PCB_SMT_6793xx124022_pf2.jpg" title="Enlarge picture"> / <img src="http://katalog.we-online.de/media/thumbs2/eican/thb_Con_WTB_1.50_PCB_SMT_6793xx124022_pf2.jpg"  width="320"></a><p> / Details see: <a href="http://katalog.we-online.de/en/em/679_3xx_124_022">http://katalog.we-online.de/en/em/679_3xx_124_022</a><p> / Created 2014-06-06, Karrer Zheng<br> / 2014 (C) Würth Elektronik
footprint 679305124022
pins: 1, 2, 3, 4, 5

## 679306124022
designator J?, comment <b>WR-WTB Wire-to-Board Connectors 1.50 mm - 6 Pins;</b>=>Code : Con_WTB_1.50_PCB_SMT_6793xx124022_679306124022 / <p><a href="http://katalog.we-online.de/media/images/eican/Con_WTB_1.50_PCB_SMT_6793xx124022_pf2.jpg"> / <img src="http://katalog.we-online.de/media/thumbs2/eican/thb_Con_WTB_1.50_PCB_SMT_6793xx124022_pf2.jpg" width="320"></a><p> / <p>Details see: <a href="http://katalog.we-online.de/em/datasheet/6793xx124022.pdf">http://katalog.we-online.de/em/datasheet/6793xx124022.pdf</a> / <p>Created 11/27/2014, Karrer Zheng / <p>2014 (C) Wurth Elektronik
footprint 679306124022
pins: 1, 2, 3, 4, 5, 6

## 679307124022
designator J?, comment <b>WR-WTB 1.50mm SMT Male Vertical Shrouded Header, 7 Pins</b>=>Code : Con_WTB_1.50_PCB_SMT_679307124022 / <br><a href="http://katalog.we-online.de/media/thumbs2/eican/thb_Con_WTB_1.50_PCB_SMT_6793xx124022_pf2.jpg" title="Enlarge picture"> / <img src="http://katalog.we-online.de/media/thumbs2/eican/thb_Con_WTB_1.50_PCB_SMT_6793xx124022_pf2.jpg"  width="320"></a><p> / Details see: <a href="http://katalog.we-online.de/en/em/679_3xx_124_022">http://katalog.we-online.de/en/em/679_3xx_124_022</a><p> / Created 2014-06-06, Karrer Zheng<br> / 2014 (C) Würth Elektronik
footprint 679307124022
pins: 1, 2, 3, 4, 5, 6, 7

## 679308124022
designator J?, comment <b>WR-WTB 1.50mm SMT Male Vertical Shrouded Header, 8 Pins</b>=>Code : Con_WTB_1.50_PCB_SMT_679308124022 / <br><a href="http://katalog.we-online.de/media/thumbs2/eican/thb_Con_WTB_1.50_PCB_SMT_6793xx124022_pf2.jpg" title="Enlarge picture"> / <img src="http://katalog.we-online.de/media/thumbs2/eican/thb_Con_WTB_1.50_PCB_SMT_6793xx124022_pf2.jpg"  width="320"></a><p> / Details see: <a href="http://katalog.we-online.de/en/em/679_3xx_124_022">http://katalog.we-online.de/en/em/679_3xx_124_022</a><p> / Created 2014-06-06, Karrer Zheng<br> / 2014 (C) Würth Elektronik
footprint 679308124022
pins: 1, 2, 3, 4, 5, 6, 7, 8

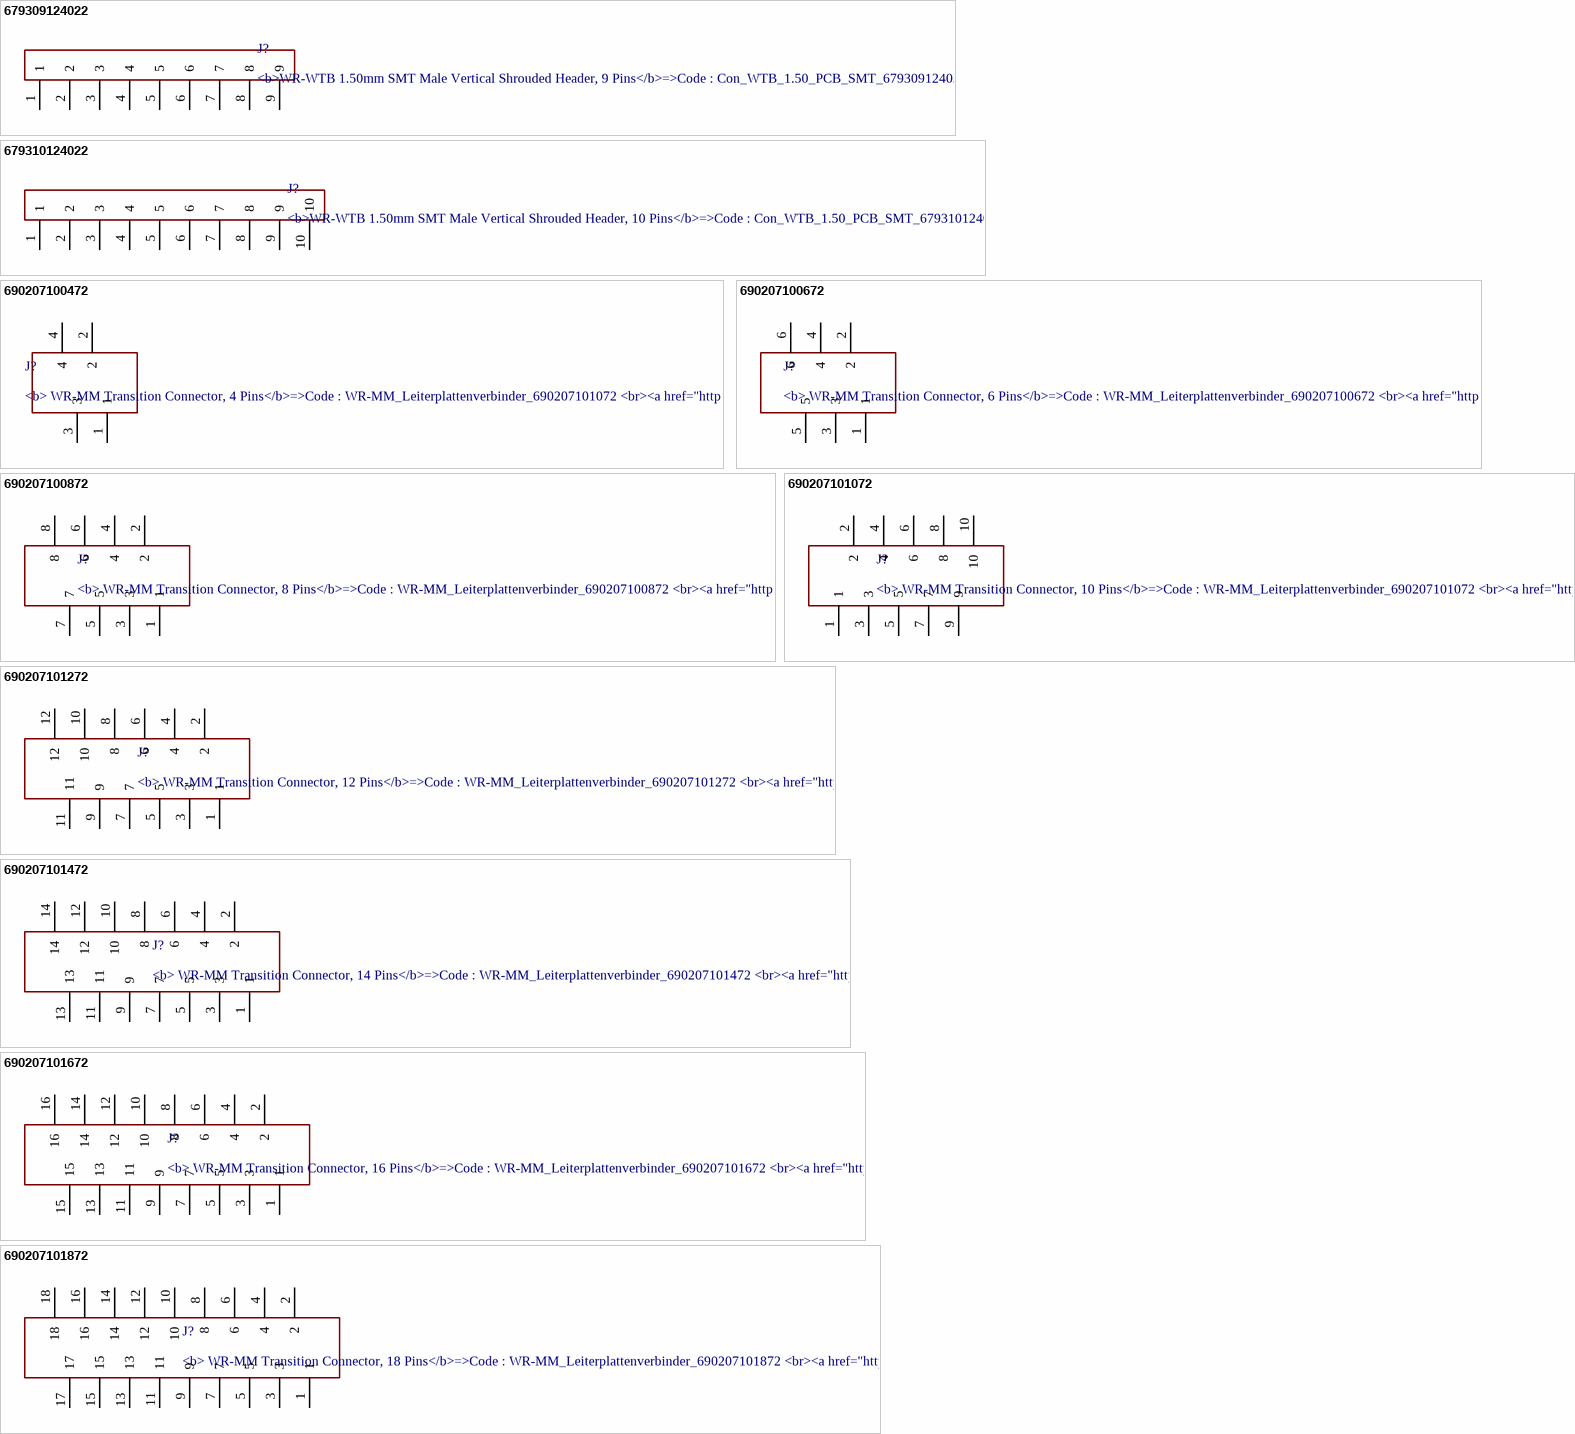
[diagram p61: symbols 679309124022 to 690207101872]

## 679309124022
designator J?, comment <b>WR-WTB 1.50mm SMT Male Vertical Shrouded Header, 9 Pins</b>=>Code : Con_WTB_1.50_PCB_SMT_679309124022 / <br><a href="http://katalog.we-online.de/media/thumbs2/eican/thb_Con_WTB_1.50_PCB_SMT_6793xx124022_pf2.jpg" title="Enlarge picture"> / <img src="http://katalog.we-online.de/media/thumbs2/eican/thb_Con_WTB_1.50_PCB_SMT_6793xx124022_pf2.jpg"  width="320"></a><p> / Details see: <a href="http://katalog.we-online.de/en/em/679_3xx_124_022">http://katalog.we-online.de/en/em/679_3xx_124_022</a><p> / Created 2014-06-06, Karrer Zheng<br> / 2014 (C) Würth Elektronik
footprint 679309124022
pins: 1, 2, 3, 4, 5, 6, 7, 8, 9

## 679310124022
designator J?, comment <b>WR-WTB 1.50mm SMT Male Vertical Shrouded Header, 10 Pins</b>=>Code : Con_WTB_1.50_PCB_SMT_679310124022 / <br><a href="http://katalog.we-online.de/media/thumbs2/eican/thb_Con_WTB_1.50_PCB_SMT_6793xx124022_pf2.jpg" title="Enlarge picture"> / <img src="http://katalog.we-online.de/media/thumbs2/eican/thb_Con_WTB_1.50_PCB_SMT_6793xx124022_pf2.jpg"  width="320"></a><p> / Details see: <a href="http://katalog.we-online.de/en/em/679_3xx_124_022">http://katalog.we-online.de/en/em/679_3xx_124_022</a><p> / Created 2014-06-06, Karrer Zheng<br> / 2014 (C) Würth Elektronik
footprint 679310124022
pins: 1, 2, 3, 4, 5, 6, 7, 8, 9, 10

## 690207100472
designator J?, comment <b> WR-MM Transition Connector, 4 Pins</b>=>Code : WR-MM_Leiterplattenverbinder_690207101072 / <br><a href="http://katalog.we-online.de/media/thumbs2/eican/thb_WR-MM_Leiterplattenverbinder_690207101072.jpg" title="Enlarge picture"> / <img src="http://katalog.we-online.de/media/thumbs2/eican/thb_WR-MM_Leiterplattenverbinder_690207101072.jpg"  width="320"></a><p> / Details see: <a href="http://katalog.we-online.de/en/em/6902_0710_xx_72">http://katalog.we-online.de/en/em/6902_0710_xx_72</a><p> / Created 2014-06-04, Karrer Zheng<br> / 2014 (C) Würth Elektronik
footprint 690207100472
pins: 1, 2, 3, 4

## 690207100672
designator J?, comment <b> WR-MM Transition Connector, 6 Pins</b>=>Code : WR-MM_Leiterplattenverbinder_690207100672 / <br><a href="http://katalog.we-online.de/media/thumbs2/eican/thb_WR-MM_Leiterplattenverbinder_690207101072.jpg" title="Enlarge picture"> / <img src="http://katalog.we-online.de/media/thumbs2/eican/thb_WR-MM_Leiterplattenverbinder_690207101072.jpg"  width="320"></a><p> / Details see: <a href="http://katalog.we-online.de/en/em/6902_0710_xx_72">http://katalog.we-online.de/en/em/6902_0710_xx_72</a><p> / Created 2014-06-04, Karrer Zheng<br> / 2014 (C) Würth Elektronik
footprint 690207100672
pins: 1, 2, 3, 4, 5, 6

## 690207100872
designator J?, comment <b> WR-MM Transition Connector, 8 Pins</b>=>Code : WR-MM_Leiterplattenverbinder_690207100872 / <br><a href="http://katalog.we-online.de/media/thumbs2/eican/thb_WR-MM_Leiterplattenverbinder_690207101072.jpg" title="Enlarge picture"> / <img src="http://katalog.we-online.de/media/thumbs2/eican/thb_WR-MM_Leiterplattenverbinder_690207101072.jpg"  width="320"></a><p> / Details see: <a href="http://katalog.we-online.de/en/em/6902_0710_xx_72">http://katalog.we-online.de/en/em/6902_0710_xx_72</a><p> / Created 2014-06-04, Karrer Zheng<br> / 2014 (C) Würth Elektronik
footprint 690207100872
pins: 1, 2, 3, 4, 5, 6, 7, 8

## 690207101072
designator J?, comment <b> WR-MM Transition Connector, 10 Pins</b>=>Code : WR-MM_Leiterplattenverbinder_690207101072 / <br><a href="http://katalog.we-online.de/media/thumbs2/eican/thb_WR-MM_Leiterplattenverbinder_690207101072.jpg" title="Enlarge picture"> / <img src="http://katalog.we-online.de/media/thumbs2/eican/thb_WR-MM_Leiterplattenverbinder_690207101072.jpg"  width="320"></a><p> / Details see: <a href="http://katalog.we-online.de/en/em/6902_0710_xx_72">http://katalog.we-online.de/en/em/6902_0710_xx_72</a><p> / Created 2014-06-04, Karrer Zheng<br> / 2014 (C) Würth Elektronik
footprint 690207101072
pins: 1, 2, 3, 4, 5, 6, 7, 8, 9, 10

## 690207101272
designator J?, comment <b> WR-MM Transition Connector, 12 Pins</b>=>Code : WR-MM_Leiterplattenverbinder_690207101272 / <br><a href="http://katalog.we-online.de/media/thumbs2/eican/thb_WR-MM_Leiterplattenverbinder_690207101072.jpg" title="Enlarge picture"> / <img src="http://katalog.we-online.de/media/thumbs2/eican/thb_WR-MM_Leiterplattenverbinder_690207101072.jpg"  width="320"></a><p> / Details see: <a href="http://katalog.we-online.de/en/em/6902_0710_xx_72">http://katalog.we-online.de/en/em/6902_0710_xx_72</a><p> / Created 2014-06-04, Karrer Zheng<br> / 2014 (C) Würth Elektronik
footprint 690207101272
pins: 1, 2, 3, 4, 5, 6, 7, 8, 9, 10, 11, 12

## 690207101472
designator J?, comment <b> WR-MM Transition Connector, 14 Pins</b>=>Code : WR-MM_Leiterplattenverbinder_690207101472 / <br><a href="http://katalog.we-online.de/media/thumbs2/eican/thb_WR-MM_Leiterplattenverbinder_690207101072.jpg" title="Enlarge picture"> / <img src="http://katalog.we-online.de/media/thumbs2/eican/thb_WR-MM_Leiterplattenverbinder_690207101072.jpg"  width="320"></a><p> / Details see: <a href="http://katalog.we-online.de/en/em/6902_0710_xx_72">http://katalog.we-online.de/en/em/6902_0710_xx_72</a><p> / Created 2014-06-04, Karrer Zheng<br> / 2014 (C) Würth Elektronik
footprint 690207101472
pins: 1, 2, 3, 4, 5, 6, 7, 8, 9, 10, 11, 12, 13, 14

## 690207101672
designator J?, comment <b> WR-MM Transition Connector, 16 Pins</b>=>Code : WR-MM_Leiterplattenverbinder_690207101672 / <br><a href="http://katalog.we-online.de/media/thumbs2/eican/thb_WR-MM_Leiterplattenverbinder_690207101072.jpg" title="Enlarge picture"> / <img src="http://katalog.we-online.de/media/thumbs2/eican/thb_WR-MM_Leiterplattenverbinder_690207101072.jpg"  width="320"></a><p> / Details see: <a href="http://katalog.we-online.de/en/em/6902_0710_xx_72">http://katalog.we-online.de/en/em/6902_0710_xx_72</a><p> / Created 2014-06-04, Karrer Zheng<br> / 2014 (C) Würth Elektronik
footprint 690207101672
pins: 1, 2, 3, 4, 5, 6, 7, 8, 9, 10, 11, 12, 13, 14, 15, 16

## 690207101872
designator J?, comment <b> WR-MM Transition Connector, 18 Pins</b>=>Code : WR-MM_Leiterplattenverbinder_690207101872 / <br><a href="http://katalog.we-online.de/media/thumbs2/eican/thb_WR-MM_Leiterplattenverbinder_690207101072.jpg" title="Enlarge picture"> / <img src="http://katalog.we-online.de/media/thumbs2/eican/thb_WR-MM_Leiterplattenverbinder_690207101072.jpg"  width="320"></a><p> / Details see: <a href="http://katalog.we-online.de/en/em/6902_0710_xx_72">http://katalog.we-online.de/en/em/6902_0710_xx_72</a><p> / Created 2014-06-04, Karrer Zheng<br> / 2014 (C) Würth Elektronik
footprint 690207101872
pins: 1, 2, 3, 4, 5, 6, 7, 8, 9, 10, 11, 12, 13, 14, 15, 16, 17, 18

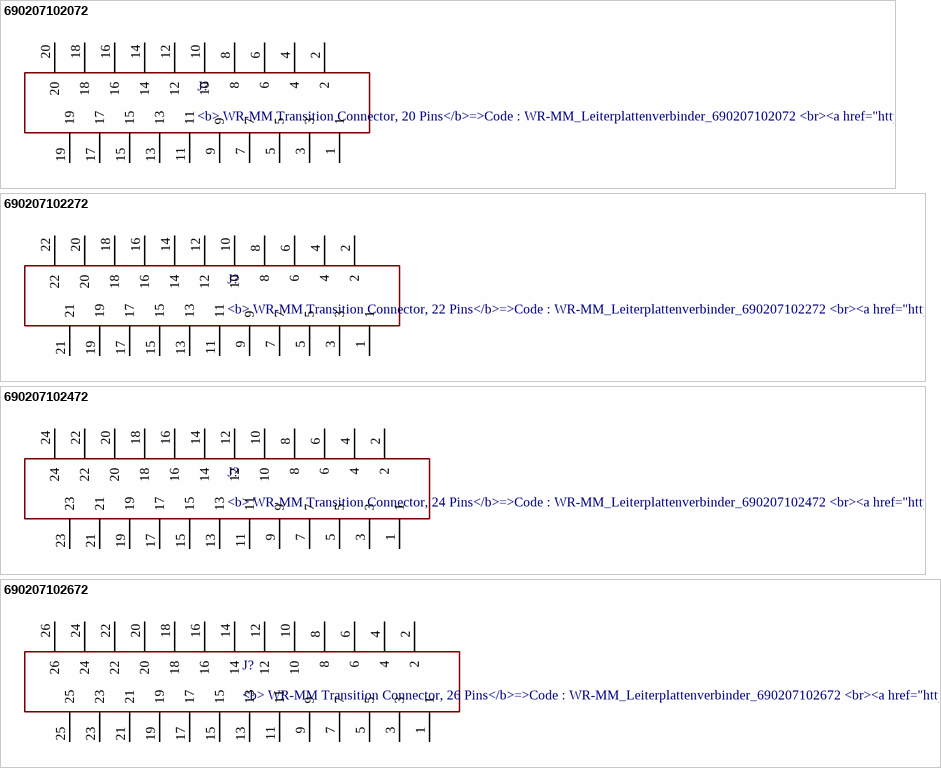
[diagram p62: symbols 690207102072 to 690207102672]

## 690207102072
designator J?, comment <b> WR-MM Transition Connector, 20 Pins</b>=>Code : WR-MM_Leiterplattenverbinder_690207102072 / <br><a href="http://katalog.we-online.de/media/thumbs2/eican/thb_WR-MM_Leiterplattenverbinder_690207101072.jpg" title="Enlarge picture"> / <img src="http://katalog.we-online.de/media/thumbs2/eican/thb_WR-MM_Leiterplattenverbinder_690207101072.jpg"  width="320"></a><p> / Details see: <a href="http://katalog.we-online.de/en/em/6902_0710_xx_72">http://katalog.we-online.de/en/em/6902_0710_xx_72</a><p> / Created 2014-06-04, Karrer Zheng<br> / 2014 (C) Würth Elektronik
footprint 690207102072
pins: 1, 2, 3, 4, 5, 6, 7, 8, 9, 10, 11, 12, 13, 14, 15, 16, 17, 18, 19, 20

## 690207102272
designator J?, comment <b> WR-MM Transition Connector, 22 Pins</b>=>Code : WR-MM_Leiterplattenverbinder_690207102272 / <br><a href="http://katalog.we-online.de/media/thumbs2/eican/thb_WR-MM_Leiterplattenverbinder_690207101072.jpg" title="Enlarge picture"> / <img src="http://katalog.we-online.de/media/thumbs2/eican/thb_WR-MM_Leiterplattenverbinder_690207101072.jpg"  width="320"></a><p> / Details see: <a href="http://katalog.we-online.de/en/em/6902_0710_xx_72">http://katalog.we-online.de/en/em/6902_0710_xx_72</a><p> / Created 2014-06-04, Karrer Zheng<br> / 2014 (C) Würth Elektronik
footprint 690207102272
pins: 1, 2, 3, 4, 5, 6, 7, 8, 9, 10, 11, 12, 13, 14, 15, 16, 17, 18, 19, 20, 21, 22

## 690207102472
designator J?, comment <b> WR-MM Transition Connector, 24 Pins</b>=>Code : WR-MM_Leiterplattenverbinder_690207102472 / <br><a href="http://katalog.we-online.de/media/thumbs2/eican/thb_WR-MM_Leiterplattenverbinder_690207101072.jpg" title="Enlarge picture"> / <img src="http://katalog.we-online.de/media/thumbs2/eican/thb_WR-MM_Leiterplattenverbinder_690207101072.jpg"  width="320"></a><p> / Details see: <a href="http://katalog.we-online.de/en/em/6902_0710_xx_72">http://katalog.we-online.de/en/em/6902_0710_xx_72</a><p> / Created 2014-06-04, Karrer Zheng<br> / 2014 (C) Würth Elektronik
footprint 690207102472
pins: 1, 2, 3, 4, 5, 6, 7, 8, 9, 10, 11, 12, 13, 14, 15, 16, 17, 18, 19, 20, 21, 22, 23, 24

## 690207102672
designator J?, comment <b> WR-MM Transition Connector, 26 Pins</b>=>Code : WR-MM_Leiterplattenverbinder_690207102672 / <br><a href="http://katalog.we-online.de/media/thumbs2/eican/thb_WR-MM_Leiterplattenverbinder_690207101072.jpg" title="Enlarge picture"> / <img src="http://katalog.we-online.de/media/thumbs2/eican/thb_WR-MM_Leiterplattenverbinder_690207101072.jpg"  width="320"></a><p> / Details see: <a href="http://katalog.we-online.de/en/em/6902_0710_xx_72">http://katalog.we-online.de/en/em/6902_0710_xx_72</a><p> / Created 2014-06-04, Karrer Zheng<br> / 2014 (C) Würth Elektronik
footprint 690207102672
pins: 1, 2, 3, 4, 5, 6, 7, 8, 9, 10, 11, 12, 13, 14, 15, 16, 17, 18, 19, 20, 21, 22, 23, 24, 25, 26